# Altium footprint library JTP1138A6EM.PcbLib: 1 footprints
Each footprint in its own frame and in the unit in brackets; x right, y up, seen from the top. Pads: shape width x height; smd on the part's side, far side on the other; paste and mask are expansions set on the pad; w line width, h text height; cw(c..) or ccw(c..) is an arc to the next point about the centre after c.
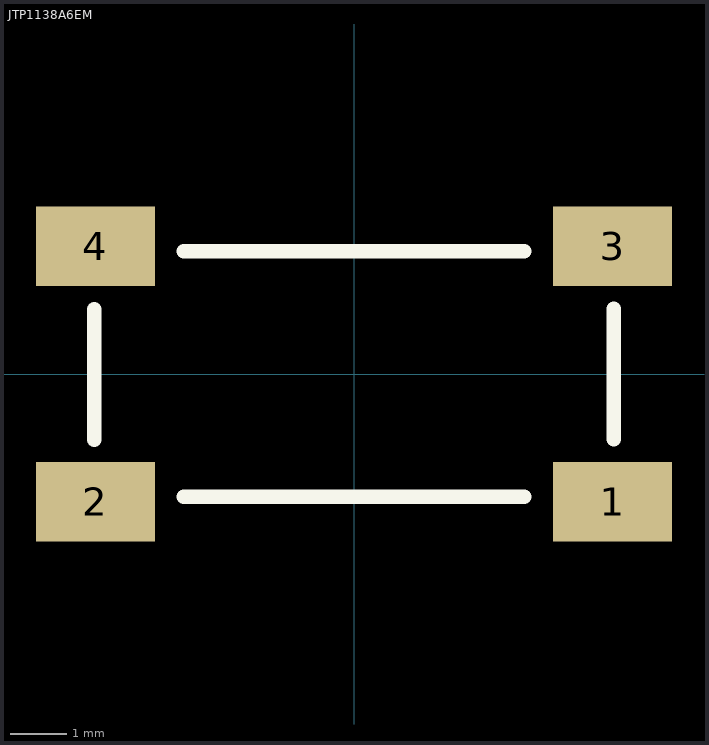
[diagram p0: the footprint, top view; thin cyan lines are the x and y axes]

## JTP1138A6EM [mm]
pads (4):
  rect 2.1x1.4 smd: 1(4.55,-2.25) 2(-4.55,-2.25) 3(4.55,2.25) 4(-4.55,2.25)
Top Overlay:
  lines w0.254: -4.572,-1.157 -4.572,1.143 ; -3,-2.159 3,-2.159 ; -3,2.159 3,2.159 ; 4.572,-1.15 4.572,1.15
3D body "pulsador JTP1138A6EM.STEP": height 5.4, standoff 0, extent -5,-3 5,3